# Altium schematic symbol library PoteDigital.SchLib: 2 symbols
Pins are listed as number, name and electrical type; pins without a type are passive.

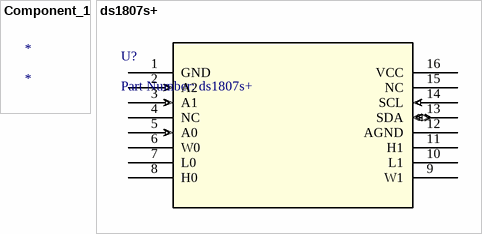
[diagram p0: symbols Component_1 to ds1807s+]

## Component_1
designator *

## ds1807s+
designator U?, comment Part Number: ds1807s+
No Description Available; Vendor: Maxim Integrated Products; Built_By: EMA_UL_Team; Manufacturer_Part_Number: ds1807s+; Copyright: Copyright (C) 2018 Accelerated Designs. All rights reserved; RefDes: RefDes; Type: DEV; Value: Value
footprint 21-0042B_16
pins: 1 GND (power), 2 A2 (in), 3 A1 (in), 4 NC, 5 A0 (in), 6 W0, 7 L0, 8 H0, 9 W1, 10 L1, 11 H1, 12 AGND (power), 13 SDA (io), 14 SCL (in), 15 NC, 16 VCC (power)